# Altium footprint library aiskylab-14Connectors-20TestAndMechenical.PcbLib: 45 footprints (part 1 of 3)
Each footprint in its own frame and in the unit in brackets; x right, y up, seen from the top. Pads: shape width x height; smd on the part's side, far side on the other; paste and mask are expansions set on the pad; w line width, h text height; cw(c..) or ccw(c..) is an arc to the next point about the centre after c.
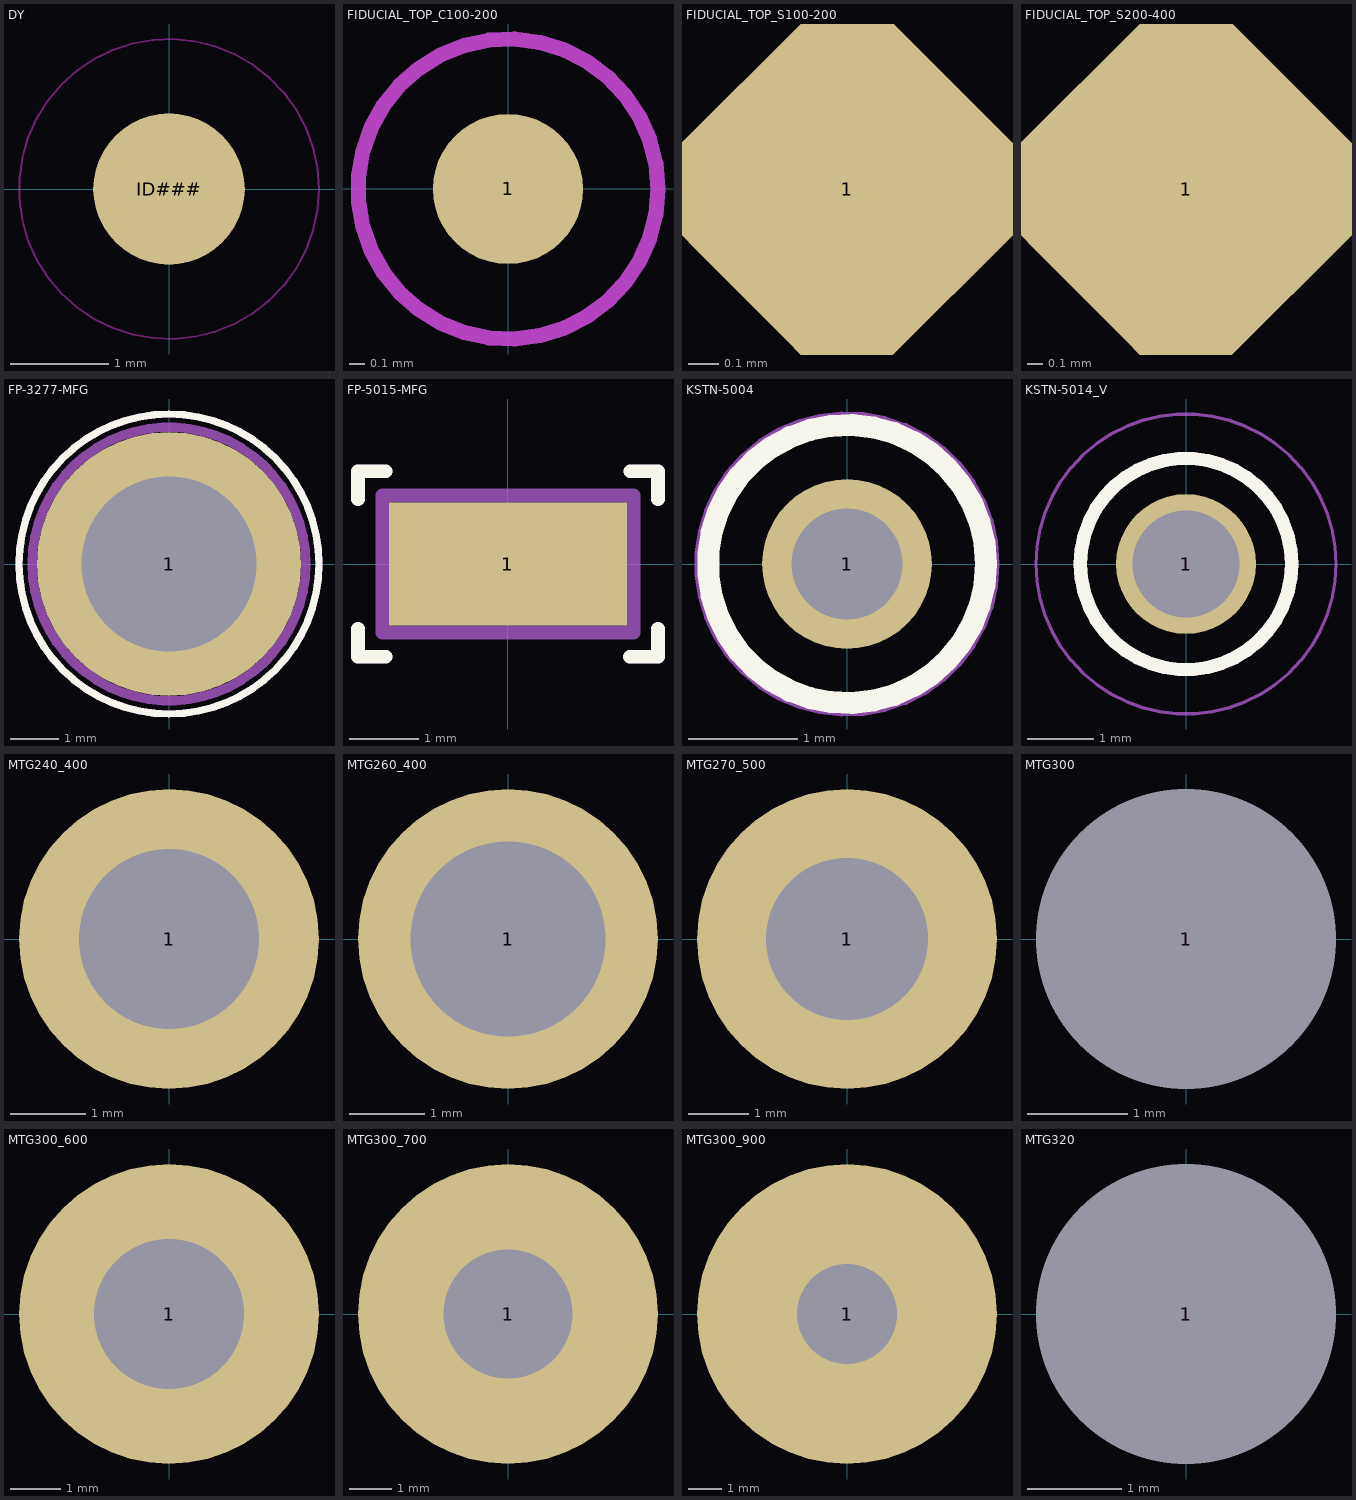
[diagram p0: the footprints below, top view; thin cyan lines are the x and y axes]

## DY [mm]
height 11.7
pads (1):
  round 1.54 smd: ID###(0,0)
Keep-Out Layer:
  circle w0.02: c0,0 r1.524
Top Designator:
  text ".Designator" at -7.618,-0.508 h1.52
3D body "1_016-1_016-3_tp.stp": height 0.02, standoff 0, extent -1.5,-1.5 1.5,1.5

## FIDUCIAL_TOP_C100-200 [mm] "Round Fiducial Target, Top Layer, 1.0mm, Top Solder 2.0mm, Keepout =2.0mm"
height 11.7
pads (1):
  round 1 smd paste-0.51 mask+0.5: 1(0,0)
Top Layer keep-out:
  circle w0.1: c0,0 r1
Top Designator:
  text ".Designator" at -7.618,-0.508 h1.52
Top Assembly:
  circle w0.1: c0,0 r1
Top Component Outline:
  circle w0.1: c0,0 r1
3D body "y100-100.stp": height 0.03, standoff 0, extent -0.5,-0.5 0.5,0.5

## FIDUCIAL_TOP_S100-200 [mm] "Square Fiducial Target, Top Layer, 1.0mm, Top Solder 2.0mm, Keepout =2.0mm"
height 11.7
pads (1):
  rect 1x1 smd rot 45 paste-0.51 mask+0.5: 1(0,0)
Top Designator:
  text ".Designator" at -7.618,-0.508 h1.52
3D body "p100-100.stp": height 0.02, standoff 0, extent -0.707,-0.707 0.707,0.707

## FIDUCIAL_TOP_S200-400 [mm] "Square Fiducial Target, Top Layer, 2.0mm, Top Solder 4.0mm, Keepout =4.0mm"
height 11.7
pads (1):
  rect 2x2 smd rot 45 paste-0.9 mask+1: 1(0,0)
Top Designator:
  text ".Designator" at -7.618,-0.508 h1.52
3D body "p200-200.stp": height 0.02, standoff 0, extent -1.414,-1.414 1.414,1.414

## FP-3277-MFG [mm]
pads (1):
  round 5.5 hole 3.65 paste-1000 mask+0: 1(0,0)
Top Overlay:
  circle w0.15: c0,0 r3.125
Top Designator:
  text ".Designator" at 0,0.188 h1
Top Assembly:
  circle w0.15: c0,0 r3.125
Top Component Center:
  lines w0.1: -0.5,0 0.5,0 ; 0,-0.5 0,0.5
Top Component Outline:
  lines w0.2: -2.85,0 cw(c0,0) 2.85,0 cw(c0,0) -2.85,0
Top 3D Body:
  circle w0.15: c0,0 r2.39
3D body "Conn_Pomona_3277_eec.STEP": height 3.94, standoff -8.76, extent -2.39,-2.39 2.39,2.39

## FP-5015-MFG [mm]
pads (1):
  rect 3.43x1.78 smd paste+0 mask+0: 1(0,0)
Top Overlay:
  lines w0.2: -2.165,-0.94 -2.165,-1.34 -1.765,-1.34 ; -2.165,0.94 -2.165,1.34 -1.765,1.34 ; 1.764,-1.339 2.164,-1.339 2.164,-0.939 ; 1.766,1.339 2.166,1.339 2.166,0.939
Top Designator:
  text ".Designator" at -7.617,-0.508 h1.52
Top Assembly:
  lines w0.2: -2.165,-0.94 -2.165,-1.34 -1.765,-1.34 ; -2.165,0.94 -2.165,1.34 -1.765,1.34 ; 1.764,-1.339 2.164,-1.339 2.164,-0.939 ; 1.766,1.339 2.166,1.339 2.166,0.939 ; -1.815,-0.99 -1.815,0.99 1.815,0.99 1.815,-0.99 -1.815,-0.99
Top Component Center:
  lines w0.1: -0.5,0 0.5,0 ; 0,-0.5 0,0.5
Top Component Outline:
  lines w0.2: -1.815,-0.99 1.815,-0.99 1.815,0.99 -1.815,0.99 -1.815,-0.99
Top 3D Body:
  lines w0.2: -1.359,-0.572 1.359,-0.572 1.359,0.572 -1.359,0.572 -1.359,-0.572

## KSTN-5004 [mm] "Test Point, Through Hole, Dia 2.54mm"
height 4.57
pads (1):
  round 1.55 hole 1.016: 1(0,0)
Top Overlay:
  circle w0.2: c0,0 r1.27
Top Designator:
  text ".Designator" at -7.618,-0.508 h1.52
Top Assembly:
  circle w0.05: c0,0 r1.37
Top Component Center:
  lines w0.1: -0.5,0 0.5,0 -0.5,0 ; 0,-0.5 0,0.5 0,-0.5
Top Component Outline:
  circle w0.05: c0,0 r1.37
Top 3D Body:
  circle w0.1: c0,0 r1.27
3D body: height 4.57, standoff 0, extent -1.269,-1.269 1.269,1.269

## KSTN-5014_V [mm] "Test Point, Dia 3.17mm"
height 8.28
pads (1):
  round 2.1 hole 1.6: 1(0,0)
Top Overlay:
  circle w0.2: c0,0 r1.585
Top Designator:
  text ".Designator" at -7.618,-0.508 h1.52
Top Assembly:
  circle w0.2: c0,0 r1.585
Top Component Center:
  lines w0.1: -0.5,0 0.5,0 ; 0,-0.5 0,0.5
Top Component Outline:
  circle w0.05: c0,0 r2.25
Top 3D Body:
  circle w0.1: c0,0 r1.585
3D body "keystone-PN5014.STEP": height 8.13, standoff -3.17, extent -1.587,-1.587 1.588,1.588

## MTG240_400 [mm] "Plated Through Hole: Hole Dia.=2.4mm Pad Dia.=4.0mm"
height 11.7
pads (1):
  round 4 hole 2.4: 1(0,0)
3D body "v400-240.stp": height 0.02, standoff -1.65, extent -2,-2 2,2

## MTG260_400 [mm] "Plated Through Hole: Hole Dia.=2.6mm Pad Dia.=4.0mm"
height 11.7
pads (1):
  round 4 hole 2.6: 1(0,0)

## MTG270_500 [mm] "Plated Through Hole: Hole Dia.=2.7mm Pad Dia.=5.0mm"
height 11.7
pads (1):
  round 5 hole 2.7: 1(0,0)
3D body "v500-270.stp": height 0.02, standoff -1.65, extent -2.5,-2.5 2.5,2.5

## MTG300 [mm] "Non Plated Through Hole: Hole Dia.=3.0mm"
height 11.7
pads (1):
  round 2.7 hole 3 unplated: 1(0,0)

## MTG300_600 [mm] "Plated Through Hole: Hole Dia.=3.0mm Pad Dia.=6.0mm"
height 11.7
pads (1):
  round 6 hole 3: 1(0,0)
3D body "v600-300.stp": height 0.02, standoff -1.65, extent -3,-3 3,3

## MTG300_700 [mm] "Plated Through Hole: Hole Dia.=3.0mm Pad Dia.=7.0mm"
height 11.7
pads (1):
  round 7 hole 3: 1(0,0)
3D body "v700-300.stp": height 0.02, standoff -1.65, extent -3.5,-3.5 3.5,3.5

## MTG300_900 [mm] "Plated Through Hole: Hole Dia.=3.0mm Pad Dia.=9.0mm"
height 11.7
pads (1):
  round 9 hole 3: 1(0,0)
3D body "v900-300.stp": height 0.02, standoff -1.65, extent -4.5,-4.5 4.5,4.5

## MTG320 [mm] "Non Plated Through Hole: Hole Dia.=3.2mm"
height 11.7
pads (1):
  round 2.9 hole 3.2 unplated: 1(0,0)